# Altium schematic symbol library LDO-5Pin.SchLib: 1 symbol
Pins are listed as number, name and electrical type; pins without a type are passive.

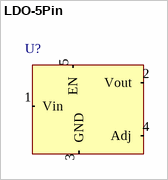
[diagram p0: symbol LDO-5Pin]

## LDO-5Pin
designator U?
pins: 1 Vin (in), 2 Vout (in), 3 GND (in), 4 Adj (in), 5 EN (in)